# Altium schematic symbol library SamacSys.SchLib: 40 symbols
Pins are listed as number, name and electrical type; pins without a type are passive.

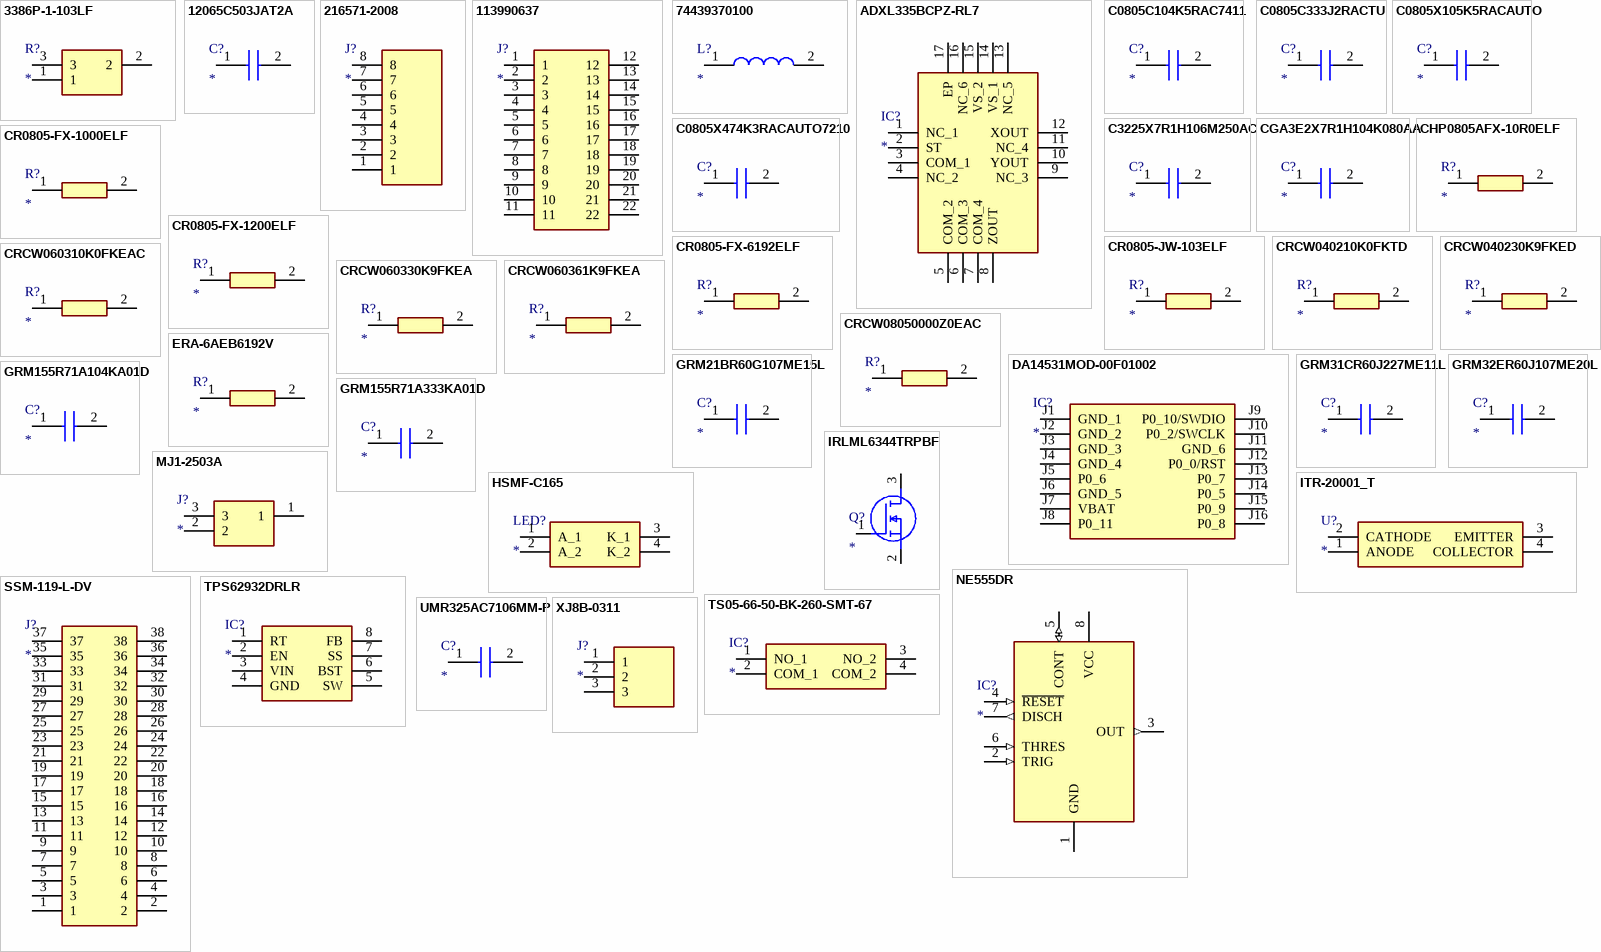
[diagram p0: symbols 3386P-1-103LF to XJ8B-0311]

## 3386P-1-103LF
designator R?
Resistor; Manufacturer_Name: Bourns; Manufacturer_Part_Number: 3386P-1-103LF; Datasheet Link: https://componentsearchengine.com//3386P-1-103LF.pdf; Mouser2 Part Number: 652-3386P-1-103LF; Mouser2 Price/Stock: https://www.mouser.com/Search/Refine.aspx?Keyword=652-3386P-1-103LF
footprint 3386P_1
pins: 1, 2, 3

## 12065C503JAT2A
designator C?
Capacitor; Manufacturer_Name: AVX; Manufacturer_Part_Number: 12065C503JAT2A
footprint CAPC3216X94N
pins: 1 C1, 2 C2

## 216571-2008
designator J?
Connector; Manufacturer_Name: Molex; Manufacturer_Part_Number: 216571-2008; Datasheet Link: https://www.molex.com/pdm_docs/sd/2165711002_sd.pdf; Height: 9.91mm
footprint 216571-YY08
pins: 1, 2, 3, 4, 5, 6, 7, 8

## 113990637
designator J?
Connector; Manufacturer_Name: Seeed Studio; Manufacturer_Part_Number: 113990637; Height: 4mm
footprint 113990637
pins: 1, 2, 3, 4, 5, 6, 7, 8, 9, 10, 11, 12, 13, 14, 15, 16, 17, 18, 19, 20, 21, 22

## 74439370100
designator L?
Inductor; Manufacturer_Name: Wurth Elektronik; Manufacturer_Part_Number: 74439370100; Datasheet Link: https://componentsearchengine.com/Datasheets/1/74439370100.pdf; Height: 10mm
footprint 74439370100
pins: 1, 2

## ADXL335BCPZ-RL7
designator IC?
Integrated Circuit; Manufacturer_Name: Analog Devices; Manufacturer_Part_Number: ADXL335BCPZ-RL7; Datasheet Link: https://componentsearchengine.com//ADXL335BCPZ-RL7.pdf; Height: 1.5mm; Mouser2 Part Number: 584-ADXL335BCPZ-R7; Mouser2 Price/Stock: https://www.mouser.com/Search/Refine.aspx?Keyword=584-ADXL335BCPZ-R7
footprint QFN65P400X400X150-17N-D
pins: 1 NC_1, 2 ST, 3 COM_1, 4 NC_2, 5 COM_2, 6 COM_3, 7 COM_4, 8 ZOUT, 9 NC_3, 10 YOUT, 11 NC_4, 12 XOUT, 13 NC_5, 14 VS_1, 15 VS_2, 16 NC_6, 17 EP

## C0805C104K5RAC7411
designator C?
Capacitor; Manufacturer_Name: KEMET; Manufacturer_Part_Number: C0805C104K5RAC7411; Description: Cap Ceramic 0.1uF 50V X7R 10% Pad SMD 0805 125C T/R; Datasheet Link: https://componentsearchengine.com//C0805C104K5RAC7411.pdf; Height: 0.88mm; Mouser2 Part Number: 80-C0805C104K5RACLR; Mouser2 Price/Stock: https://www.mouser.com/Search/Refine.aspx?Keyword=80-C0805C104K5RACLR
footprint CAPC2012X88N
pins: 1, 2

## C0805C333J2RACTU
designator C?
Capacitor; Manufacturer_Name: KEMET; Manufacturer_Part_Number: C0805C333J2RACTU; Description: SMD Comm X7R; Datasheet Link: https://content.kemet.com/datasheets/KEM_C1002_X7R_SMD.pdf; Height: 1.1mm
footprint C0805
pins: 1, 2

## C0805X105K5RACAUTO
designator C?
Capacitor; Manufacturer_Name: KEMET; Manufacturer_Part_Number: C0805X105K5RACAUTO; Datasheet Link: https://connect.kemet.com:7667/gateway/IntelliData-ComponentDocumentation/1.0/download/specsheet/C0805X105K5RACAUTO; Height: 1.45mm
footprint CAPC2012X145N
pins: 1, 2

## C0805X474K3RACAUTO7210
designator C?
Capacitor; Manufacturer_Name: KEMET; Manufacturer_Part_Number: C0805X474K3RACAUTO7210; Datasheet Link: https://content.kemet.com/datasheets/KEM_C1078_X7R_FT-CAP_AUTO_SMD.pdf; Height: 1.1mm
footprint C0805
pins: 1, 2

## C3225X7R1H106M250AC
designator C?
Capacitor; Manufacturer_Name: TDK; Manufacturer_Part_Number: C3225X7R1H106M250AC; Datasheet Link: https://componentsearchengine.com//C3225X7R1H106M250AC.pdf; Height: 2.8mm; Mouser2 Part Number: 810-C3225X7R1H106MAC; Mouser2 Price/Stock: https://www.mouser.com/Search/Refine.aspx?Keyword=810-C3225X7R1H106MAC
footprint C3225_Commercial
pins: 1, 2

## CGA3E2X7R1H104K080AA
designator C?
Capacitor; Manufacturer_Name: TDK; Manufacturer_Part_Number: CGA3E2X7R1H104K080AA; Datasheet Link: https://componentsearchengine.com//CGA3E2X7R1H104K080AA.pdf; Height: 0.9mm; Mouser2 Part Number: 810-CGA3E2X7R1H104K; Mouser2 Price/Stock: https://www.mouser.com/Search/Refine.aspx?Keyword=810-CGA3E2X7R1H104K
footprint CAPC1608X90N
pins: 1, 2

## CHP0805AFX-10R0ELF
designator R?
Resistor; Manufacturer_Name: Bourns; Manufacturer_Part_Number: CHP0805AFX-10R0ELF; Datasheet Link: https://www.mouser.co.uk/datasheet/2/54/chp-a-1858677.pdf; Height: 0.6mm
footprint RESC2012X60N
pins: 1, 2

## CR0805-FX-1000ELF
designator R?
Resistor; Manufacturer_Name: Bourns; Manufacturer_Part_Number: CR0805-FX-1000ELF; Datasheet Link: https://www.bourns.com/pdfs/chpreztr.pdf; Height: 0.6mm
footprint RESC2012X60N
pins: 1, 2

## CR0805-FX-1200ELF
designator R?
Resistor; Manufacturer_Name: Bourns; Manufacturer_Part_Number: CR0805-FX-1200ELF; Datasheet Link: https://www.bourns.com/pdfs/chpreztr.pdf; Height: 0.6mm
footprint RESC2012X60N
pins: 1, 2

## CR0805-FX-6192ELF
designator R?
Resistor; Manufacturer_Name: Bourns; Manufacturer_Part_Number: CR0805-FX-6192ELF; Datasheet Link: https://www.bourns.com/pdfs/chpreztr.pdf; Height: 0.6mm
footprint RESC2012X60N
pins: 1, 2

## CR0805-JW-103ELF
designator R?
Resistor; Manufacturer_Name: Bourns; Manufacturer_Part_Number: CR0805-JW-103ELF; Datasheet Link: https://componentsearchengine.com//CR0805-JW-103ELF.pdf; Height: 0.6mm; Mouser2 Part Number: 652-CR0805-JW-103ELF; Mouser2 Price/Stock: https://www.mouser.com/Search/Refine.aspx?Keyword=652-CR0805-JW-103ELF
footprint RESC2012X60N
pins: 1, 2

## CRCW040210K0FKTD
designator R?
Resistor; Manufacturer_Name: Vishay; Manufacturer_Part_Number: CRCW040210K0FKTD; Datasheet Link: https://componentsearchengine.com//CRCW040210K0FKTD.pdf; Height: 0.4mm; Mouser2 Part Number: 71-CRCW0402-10K; Mouser2 Price/Stock: https://www.mouser.com/Search/Refine.aspx?Keyword=71-CRCW0402-10K
footprint RESC1005X40N
pins: 1, 2

## CRCW040230K9FKED
designator R?
Resistor; Manufacturer_Name: Vishay; Manufacturer_Part_Number: CRCW040230K9FKED; Datasheet Link: http://www.vishay.com/docs/20035/dcrcwe3.pdf; Height: 0.4mm
footprint RESC1005X40N
pins: 1, 2

## CRCW060310K0FKEAC
designator R?
Resistor; Manufacturer_Name: Vishay; Manufacturer_Part_Number: CRCW060310K0FKEAC; Datasheet Link: https://componentsearchengine.com//CRCW060310K0FKEAC.pdf; Height: 0.55mm; Mouser2 Part Number: 71-CRCW060310K0FKEAC; Mouser2 Price/Stock: https://www.mouser.com/Search/Refine.aspx?Keyword=71-CRCW060310K0FKEAC
footprint RESC1608X55N
pins: 1, 2

## CRCW060330K9FKEA
designator R?
Resistor; Manufacturer_Name: Vishay; Manufacturer_Part_Number: CRCW060330K9FKEA; Datasheet Link: http://www.vishay.com/docs/20035/dcrcwe3.pdf; Height: 0.5mm
footprint RESC1608X50N
pins: 1, 2

## CRCW060361K9FKEA
designator R?
Resistor; Manufacturer_Name: Vishay; Manufacturer_Part_Number: CRCW060361K9FKEA; Datasheet Link: http://www.vishay.com/docs/20035/dcrcwe3.pdf; Height: 0.5mm
footprint RESC1608X50N
pins: 1, 2

## CRCW08050000Z0EAC
designator R?
Resistor; Manufacturer_Name: Vishay; Manufacturer_Part_Number: CRCW08050000Z0EAC; Datasheet Link: https://componentsearchengine.com//CRCW08050000Z0EAC.pdf; Height: 0.6mm; Mouser2 Part Number: 71-CRCW08050000Z0EAC; Mouser2 Price/Stock: https://www.mouser.com/Search/Refine.aspx?Keyword=71-CRCW08050000Z0EAC
footprint RESC2012X60N
pins: 1, 2

## DA14531MOD-00F01002
designator IC?
Integrated Circuit; Manufacturer_Name: Dialog Semiconductor; Manufacturer_Part_Number: DA14531MOD-00F01002; Datasheet Link: https://www.mouser.ca/datasheet/2/713/da14531_module_datasheet_1v0-1843458.pdf; Height: 3.05mm
footprint DA14531MOD00F01002
pins: J1 GND_1, J2 GND_2, J3 GND_3, J4 GND_4, J5 P0_6, J6 GND_5, J7 VBAT, J8 P0_11, J9 P0_10/SWDIO, J10 P0_2/SWCLK, J11 GND_6, J12 P0_0/RST, J13 P0_7, J14 P0_5, J15 P0_9, J16 P0_8

## ERA-6AEB6192V
designator R?
Resistor; Manufacturer_Name: Panasonic; Manufacturer_Part_Number: ERA-6AEB6192V; Datasheet Link: http://industrial.panasonic.com/cdbs/www-data/pdf/RDM0000/AOA0000C307.pdf; Height: 0.6mm
footprint ERA6A_(0805)
pins: 1, 2

## GRM21BR60G107ME15L
designator C?
Capacitor; Manufacturer_Name: Murata Electronics; Manufacturer_Part_Number: GRM21BR60G107ME15L; Datasheet Link: https://datasheet.datasheetarchive.com/originals/distributors/DKDS-10/192999.pdf; Height: 1.45mm
footprint CAPC2012X145N
pins: 1, 2

## GRM31CR60J227ME11L
designator C?
Capacitor; Manufacturer_Name: Murata Electronics; Manufacturer_Part_Number: GRM31CR60J227ME11L; Datasheet Link: https://www.murata.com/products/productdetail?partno=GRM31CR60J227ME11%23; Height: 1.9mm
footprint CAPC3216X190N
pins: 1, 2

## GRM32ER60J107ME20L
designator C?
Capacitor; Manufacturer_Name: Murata Electronics; Manufacturer_Part_Number: GRM32ER60J107ME20L; Datasheet Link: https://datasheet.datasheetarchive.com/originals/distributors/Datasheets_SAMA/ec4f1577dddcc7a13ddad897a28002d3.pdf; Height: 2.7mm
footprint CAPC3225X270N
pins: 1, 2

## GRM155R71A104KA01D
designator C?
Capacitor; Manufacturer_Name: Murata Electronics; Manufacturer_Part_Number: GRM155R71A104KA01D; Datasheet Link: https://datasheet.datasheetarchive.com/originals/distributors/Datasheets_SAMA/ec4f1577dddcc7a13ddad897a28002d3.pdf; Height: 0.55mm
footprint CAPC1005X55N
pins: 1, 2

## GRM155R71A333KA01D
designator C?
Capacitor; Manufacturer_Name: Murata Electronics; Manufacturer_Part_Number: GRM155R71A333KA01D; Datasheet Link: https://datasheet.datasheetarchive.com/originals/distributors/Datasheets_SAMA/ec4f1577dddcc7a13ddad897a28002d3.pdf; Height: 0.55mm
footprint CAPC1005X55N
pins: 1, 2

## HSMF-C165
designator LED?
LED; Manufacturer_Name: Avago Technologies; Manufacturer_Part_Number: HSMF-C165; Datasheet Link: https://componentsearchengine.com//HSMF-C165.pdf; Mouser2 Part Number: 630-HSMF-C165; Mouser2 Price/Stock: https://www.mouser.com/Search/Refine.aspx?Keyword=630-HSMF-C165
footprint HSMF-C163
pins: 1 A_1, 2 A_2, 3 K_1, 4 K_2

## IRLML6344TRPBF
designator Q?
MOSFET (N-Channel); Manufacturer_Name: Infineon; Manufacturer_Part_Number: IRLML6344TRPBF; Datasheet Link: https://componentsearchengine.com//IRLML6344TRPBF.pdf; Height: 1.12mm; Mouser2 Part Number: 942-IRLML6344TRPBF; Mouser2 Price/Stock: https://www.mouser.com/Search/Refine.aspx?Keyword=942-IRLML6344TRPBF
footprint SOT95P237X112-3N
pins: 1 G, 2 S, 3 D

## ITR-20001_T
designator U?
Undefined or Miscellaneous; Manufacturer_Name: Everlight; Manufacturer_Part_Number: ITR-20001/T; Height: 6.8mm
footprint ITR20001T
pins: 1 ANODE, 2 CATHODE, 3 EMITTER, 4 COLLECTOR

## MJ1-2503A
designator J?
Connector; Manufacturer_Name: CUI Inc.; Manufacturer_Part_Number: MJ1-2503A; Datasheet Link: https://componentsearchengine.com//MJ1-2503A.pdf; Height: 5mm; Mouser2 Part Number: 490-MJ1-2503A; Mouser2 Price/Stock: https://www.mouser.com/Search/Refine.aspx?Keyword=490-MJ1-2503A
footprint MJ12503A
pins: 1, 2, 3

## NE555DR
designator IC?
Integrated Circuit; Manufacturer_Name: Texas Instruments; Manufacturer_Part_Number: NE555DR; Datasheet Link: http://www.ti.com/lit/ds/symlink/ne555.pdf; Height: 1.75mm; Mouser Part Number: 595-NE555DR; Mouser Price/Stock: https://www.mouser.com/Search/Refine.aspx?Keyword=595-NE555DR; RS Part Number: 1218414; RS Price/Stock: http://uk.rs-online.com/web/p/products/1218414
footprint SOIC127P600X175-8N
pins: 1 GND (power), 2 TRIG (in), 3 OUT (out), 4 ~{RESET} (in), 5 CONT (io), 6 THRES (in), 7 DISCH (out), 8 VCC (power)

## SSM-119-L-DV
designator J?
Connector; Manufacturer_Name: SAMTEC; Manufacturer_Part_Number: SSM-119-L-DV; Datasheet Link: http://suddendocs.samtec.com/prints/ssm-1xx-xxx-dv-xx-xx-xxx-xx-mkt.pdf
footprint SSM-119-XXX-DV
pins: 1, 2, 3, 4, 5, 6, 7, 8, 9, 10, 11, 12, 13, 14, 15, 16, 17, 18, 19, 20, 21, 22, 23, 24, 25, 26, 27, 28, 29, 30, 31, 32, 33, 34, 35, 36, 37, 38

## TPS62932DRLR
designator IC?
Integrated Circuit; Manufacturer_Name: Texas Instruments; Manufacturer_Part_Number: TPS62932DRLR; Datasheet Link: https://www.ti.com/lit/gpn/tps62932; Height: 0.6mm
footprint TPS62932DRLR
pins: 1 RT, 2 EN, 3 VIN, 4 GND, 5 SW, 6 BST, 7 SS, 8 FB

## TS05-66-50-BK-260-SMT-67
designator IC?
Integrated Circuit; Manufacturer_Name: CUI Inc.; Manufacturer_Part_Number: TS05-66-50-BK-260-SMT-67; Datasheet Link: https://www.cuidevices.com/product/resource/ts05.pdf; Height: 5.2mm
footprint TS056650BK260SMT67
pins: 1 NO_1, 2 COM_1, 3 NO_2, 4 COM_2

## UMR325AC7106MM-P
designator C?
Capacitor; Manufacturer_Name: TAIYO YUDEN; Manufacturer_Part_Number: UMR325AC7106MM-P; Height: 2.8mm
footprint CAPC3225X280N
pins: 1, 2

## XJ8B-0311
designator J?
Connector; Manufacturer_Name: Omron Electronics; Manufacturer_Part_Number: XJ8B-0311; Datasheet Link: https://www.omron.com/ecb/products/pdf/en-xj8.pdf; Height: 5.8mm
footprint HDRV3W64P0X254_1X3_760X250X580P
pins: 1, 2, 3